# Altium schematic symbol library RF_GSM.SchLib: 12 symbols
Pins are listed as number, name and electrical type; pins without a type are passive.

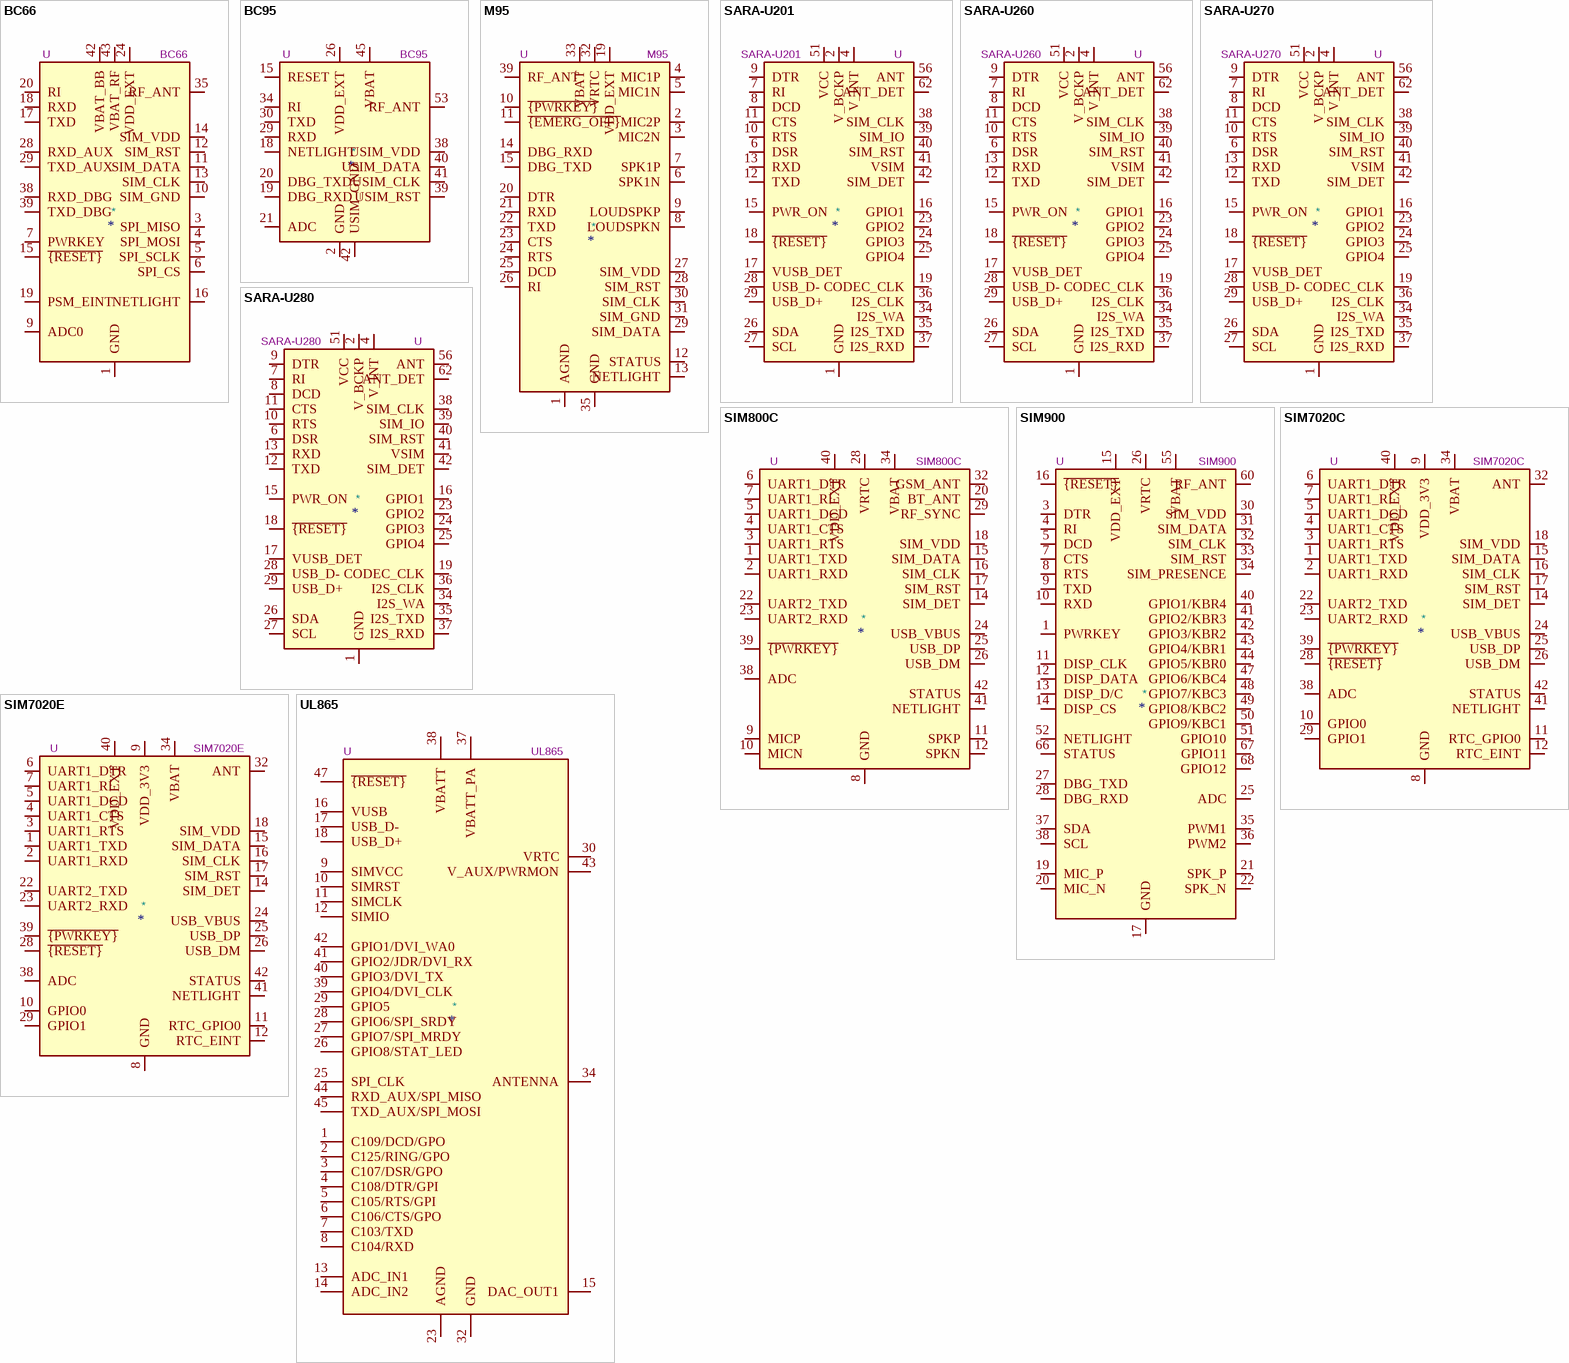
[diagram p0: symbols BC66 to UL865]

## BC66
designator *  value BC66  Reference: U
ki_keywords: NB-IoT Data SMS; ki_description: Quectel NB-IoT Global, AT Command Set; ki_fp_filters: Quectel*BC66*; Footprint: RF_GSM:Quectel_BC66; Datasheet: https://www.quectel.com/UploadImage/Downlad/Quectel_BC66_Hardware_Design_V1.1.pdf
pins: 1 GND, 2 RESERVED hidden, 3 SPI_MISO, 4 SPI_MOSI, 5 SPI_SCLK, 6 SPI_CS, 7 PWRKEY, 8 RESERVED hidden, 9 ADC0, 10 SIM_GND, 11 SIM_DATA, 12 SIM_RST, 13 SIM_CLK, 14 SIM_VDD, 15 ~{{RESET}}, 16 NETLIGHT, 17 TXD, 18 RXD, 19 PSM_EINT, 20 RI, 21 RESERVED hidden, 22 RESERVED hidden, 23 RESERVED hidden, 24 VDD_EXT, 25 RESERVED hidden, 26 RESERVED hidden, 27 GND hidden, 28 RXD_AUX, 29 TXD_AUX, 30 RESERVED hidden, 31 RESERVED hidden, 32 RESERVED hidden, 33 RESERVED hidden, 34 GND hidden, 35 RF_ANT, 36 GND hidden, 37 GND hidden, 38 RXD_DBG, 39 TXD_DBG, 40 GND hidden, 41 GND hidden, 42 VBAT_BB, 43 VBAT_RF, 44 RESERVED hidden, 45 RESERVED hidden, 46 RESERVED hidden, 47 RESERVED hidden, 48 RESERVED hidden, 49 RESERVED hidden, 50 RESERVED hidden, 51 RESERVED hidden, 52 RESERVED hidden, 53 RESERVED hidden, 54 RESERVED hidden, 55 RESERVED hidden, 56 RESERVED hidden, 57 RESERVED hidden, 58 RESERVED hidden

## BC95
designator *  value BC95  Reference: U
ki_keywords: NB-IoT GSM GPRS Quad-Band SMS; ki_description: NB-IoT, GSM Quad-Band Communication Module, GPRS, Audio Engine, AT Command Set; ki_fp_filters: Quectel?BC95*; Footprint: RF_GSM:Quectel_BC95; Datasheet: https://www.quectel.com/UploadImage/Downlad/Quectel_BC95_Hardware_Design_V1.3.pdf
pins: 2 GND, 15 RESET, 18 NETLIGHT, 19 DBG_RXD, 20 DBG_TXD, 21 ADC, 26 VDD_EXT, 29 RXD, 30 TXD, 34 RI, 38 USIM_VDD, 39 USIM_RST, 40 USIM_DATA, 41 USIM_CLK, 42 USIM_GND, 43 GND hidden, 45 VBAT, 46 VBAT hidden, 47 GND hidden, 48 GND hidden, 51 GND hidden, 52 GND hidden, 53 RF_ANT, 54 GND hidden, 59 GND hidden, 60 GND hidden, 61 GND hidden, 62 GND hidden, 63 GND hidden, 64 GND hidden, 65 GND hidden, 66 GND hidden, 71 GND hidden, 72 GND hidden, 73 GND hidden, 74 GND hidden, 81 GND hidden, 82 GND hidden, 83 GND hidden, 92 GND hidden, 93 GND hidden, 94 GND hidden

## M95
designator *  value M95  Reference: U
ki_keywords: GSM GPRS AT SMS voice TCP/IP; ki_description: Quectel quad-band GSM/GPRS module in LCC package; ki_fp_filters: Quectel*M95*; Footprint: RF_GSM:Quectel_M95; Datasheet: https://www.quectel.com/UploadImage/Downlad/M95_Hardware_Design_V1.3.pdf
pins: 1 AGND, 2 MIC2P, 3 MIC2N, 4 MIC1P, 5 MIC1N, 6 SPK1N, 7 SPK1P, 8 LOUDSPKN, 9 LOUDSPKP, 10 ~{{PWRKEY}}, 11 ~{{EMERG_OFF}}, 12 STATUS, 13 NETLIGHT, 14 DBG_RXD, 15 DBG_TXD, 16 RESERVED hidden, 17 RESERVED hidden, 18 RESERVED hidden, 19 VDD_EXT, 20 DTR, 21 RXD, 22 TXD, 23 CTS, 24 RTS, 25 DCD, 26 RI, 27 SIM_VDD, 28 SIM_RST, 29 SIM_DATA, 30 SIM_CLK, 31 SIM_GND, 32 VRTC, 33 VBAT, 34 VBAT hidden, 35 GND, 36 GND hidden, 37 GND hidden, 38 GND hidden, 39 RF_ANT, 40 GND hidden, 41 RESERVED hidden, 42 RESERVED hidden

## SARA-U201
designator *  value SARA-U201  Reference: U
ki_keywords: GSM HSPA 2G 3G; ki_description: Ublox HSPA GSM Quad-Band Communication Module, AT Command Set, AT Command Set, Worldwide , LGA-96; ki_fp_filters: ublox*SARA*; Footprint: RF_GSM:ublox_SARA-G3_LGA-96; Datasheet: https://www.u-blox.com/sites/default/files/SARA-U2_DataSheet_(UBX-13005287).pdf
pins: 1 GND, 2 V_BCKP, 3 GND hidden, 4 V_INT, 5 GND hidden, 6 DSR, 7 RI, 8 DCD, 9 DTR, 10 RTS, 11 CTS, 12 TXD, 13 RXD, 14 GND hidden, 15 PWR_ON, 16 GPIO1, 17 VUSB_DET, 18 ~{{RESET}}, 19 CODEC_CLK, 20 GND hidden, 21 GND hidden, 22 GND hidden, 23 GPIO2, 24 GPIO3, 25 GPIO4, 26 SDA, 27 SCL, 28 USB_D-, 29 USB_D+, 30 GND hidden, 31 RSVD hidden, 32 GND hidden, 33 RSVD hidden, 34 I2S_WA, 35 I2S_TXD, 36 I2S_CLK, 37 I2S_RXD, 38 SIM_CLK, 39 SIM_IO, 40 SIM_RST, 41 VSIM, 42 SIM_DET, 43 GND hidden, 44 RSVD hidden, 45 RSVD hidden, 46 RSVD hidden, 47 RSVD hidden, 48 RSVD hidden, 49 RSVD hidden, 50 GND hidden, 51 VCC, 52 VCC hidden, 53 VCC hidden, 54 GND hidden, 55 GND hidden, 56 ANT, 57 GND hidden, 58 GND hidden, 59 GND hidden, 60 GND hidden, 61 GND hidden, 62 ANT_DET, 63 GND hidden, 64 GND hidden, 65 GND hidden, 66 GND hidden, 67 GND hidden, 68 GND hidden, 69 GND hidden, 70 GND hidden, 71 GND hidden, 72 GND hidden, 73 GND hidden, 74 GND hidden, 75 GND hidden, 76 GND hidden, 77 GND hidden, 78 GND hidden, 79 GND hidden, 80 GND hidden, 81 GND hidden, 82 GND hidden, 83 GND hidden, 84 GND hidden, 85 GND hidden, 86 GND hidden, 87 GND hidden, 88 GND hidden, 89 GND hidden, 90 GND hidden, 91 GND hidden, 92 GND hidden, 93 GND hidden, 94 GND hidden, 95 GND hidden, 96 GND hidden

## SARA-U260
designator *  value SARA-U260  Reference: U
ki_keywords: GSM HSPA 2G 3G; ki_description: Ublox HSPA GSM Quad-Band Communication Module, AT Command Set, Designed for America, LGA-96; ki_fp_filters: ublox*SARA*; Footprint: RF_GSM:ublox_SARA-G3_LGA-96; Datasheet: https://www.u-blox.com/sites/default/files/SARA-U2_DataSheet_(UBX-13005287).pdf
pins: 1 GND, 2 V_BCKP, 3 GND hidden, 4 V_INT, 5 GND hidden, 6 DSR, 7 RI, 8 DCD, 9 DTR, 10 RTS, 11 CTS, 12 TXD, 13 RXD, 14 GND hidden, 15 PWR_ON, 16 GPIO1, 17 VUSB_DET, 18 ~{{RESET}}, 19 CODEC_CLK, 20 GND hidden, 21 GND hidden, 22 GND hidden, 23 GPIO2, 24 GPIO3, 25 GPIO4, 26 SDA, 27 SCL, 28 USB_D-, 29 USB_D+, 30 GND hidden, 31 RSVD hidden, 32 GND hidden, 33 RSVD hidden, 34 I2S_WA, 35 I2S_TXD, 36 I2S_CLK, 37 I2S_RXD, 38 SIM_CLK, 39 SIM_IO, 40 SIM_RST, 41 VSIM, 42 SIM_DET, 43 GND hidden, 44 RSVD hidden, 45 RSVD hidden, 46 RSVD hidden, 47 RSVD hidden, 48 RSVD hidden, 49 RSVD hidden, 50 GND hidden, 51 VCC, 52 VCC hidden, 53 VCC hidden, 54 GND hidden, 55 GND hidden, 56 ANT, 57 GND hidden, 58 GND hidden, 59 GND hidden, 60 GND hidden, 61 GND hidden, 62 ANT_DET, 63 GND hidden, 64 GND hidden, 65 GND hidden, 66 GND hidden, 67 GND hidden, 68 GND hidden, 69 GND hidden, 70 GND hidden, 71 GND hidden, 72 GND hidden, 73 GND hidden, 74 GND hidden, 75 GND hidden, 76 GND hidden, 77 GND hidden, 78 GND hidden, 79 GND hidden, 80 GND hidden, 81 GND hidden, 82 GND hidden, 83 GND hidden, 84 GND hidden, 85 GND hidden, 86 GND hidden, 87 GND hidden, 88 GND hidden, 89 GND hidden, 90 GND hidden, 91 GND hidden, 92 GND hidden, 93 GND hidden, 94 GND hidden, 95 GND hidden, 96 GND hidden

## SARA-U270
designator *  value SARA-U270  Reference: U
ki_keywords: GSM HSPA 2G 3G; ki_description: Ublox HSPA GSM Quad-Band Communication Module, AT Command Set, Designed for Europe, Asia and Others, LGA-96; ki_fp_filters: ublox*SARA*; Footprint: RF_GSM:ublox_SARA-G3_LGA-96; Datasheet: https://www.u-blox.com/sites/default/files/SARA-U2_DataSheet_(UBX-13005287).pdf
pins: 1 GND, 2 V_BCKP, 3 GND hidden, 4 V_INT, 5 GND hidden, 6 DSR, 7 RI, 8 DCD, 9 DTR, 10 RTS, 11 CTS, 12 TXD, 13 RXD, 14 GND hidden, 15 PWR_ON, 16 GPIO1, 17 VUSB_DET, 18 ~{{RESET}}, 19 CODEC_CLK, 20 GND hidden, 21 GND hidden, 22 GND hidden, 23 GPIO2, 24 GPIO3, 25 GPIO4, 26 SDA, 27 SCL, 28 USB_D-, 29 USB_D+, 30 GND hidden, 31 RSVD hidden, 32 GND hidden, 33 RSVD hidden, 34 I2S_WA, 35 I2S_TXD, 36 I2S_CLK, 37 I2S_RXD, 38 SIM_CLK, 39 SIM_IO, 40 SIM_RST, 41 VSIM, 42 SIM_DET, 43 GND hidden, 44 RSVD hidden, 45 RSVD hidden, 46 RSVD hidden, 47 RSVD hidden, 48 RSVD hidden, 49 RSVD hidden, 50 GND hidden, 51 VCC, 52 VCC hidden, 53 VCC hidden, 54 GND hidden, 55 GND hidden, 56 ANT, 57 GND hidden, 58 GND hidden, 59 GND hidden, 60 GND hidden, 61 GND hidden, 62 ANT_DET, 63 GND hidden, 64 GND hidden, 65 GND hidden, 66 GND hidden, 67 GND hidden, 68 GND hidden, 69 GND hidden, 70 GND hidden, 71 GND hidden, 72 GND hidden, 73 GND hidden, 74 GND hidden, 75 GND hidden, 76 GND hidden, 77 GND hidden, 78 GND hidden, 79 GND hidden, 80 GND hidden, 81 GND hidden, 82 GND hidden, 83 GND hidden, 84 GND hidden, 85 GND hidden, 86 GND hidden, 87 GND hidden, 88 GND hidden, 89 GND hidden, 90 GND hidden, 91 GND hidden, 92 GND hidden, 93 GND hidden, 94 GND hidden, 95 GND hidden, 96 GND hidden

## SARA-U280
designator *  value SARA-U280  Reference: U
ki_keywords: GSM HSPA 2G 3G; ki_description: Ublox HSPA GSM Quad-Band Communication Module, AT Command Set, Designed for America, LGA-96; ki_fp_filters: ublox*SARA*; Footprint: RF_GSM:ublox_SARA-G3_LGA-96; Datasheet: https://www.u-blox.com/sites/default/files/SARA-U2_DataSheet_(UBX-13005287).pdf
pins: 1 GND, 2 V_BCKP, 3 GND hidden, 4 V_INT, 5 GND hidden, 6 DSR, 7 RI, 8 DCD, 9 DTR, 10 RTS, 11 CTS, 12 TXD, 13 RXD, 14 GND hidden, 15 PWR_ON, 16 GPIO1, 17 VUSB_DET, 18 ~{{RESET}}, 19 CODEC_CLK, 20 GND hidden, 21 GND hidden, 22 GND hidden, 23 GPIO2, 24 GPIO3, 25 GPIO4, 26 SDA, 27 SCL, 28 USB_D-, 29 USB_D+, 30 GND hidden, 31 RSVD hidden, 32 GND hidden, 33 RSVD hidden, 34 I2S_WA, 35 I2S_TXD, 36 I2S_CLK, 37 I2S_RXD, 38 SIM_CLK, 39 SIM_IO, 40 SIM_RST, 41 VSIM, 42 SIM_DET, 43 GND hidden, 44 RSVD hidden, 45 RSVD hidden, 46 RSVD hidden, 47 RSVD hidden, 48 RSVD hidden, 49 RSVD hidden, 50 GND hidden, 51 VCC, 52 VCC hidden, 53 VCC hidden, 54 GND hidden, 55 GND hidden, 56 ANT, 57 GND hidden, 58 GND hidden, 59 GND hidden, 60 GND hidden, 61 GND hidden, 62 ANT_DET, 63 GND hidden, 64 GND hidden, 65 GND hidden, 66 GND hidden, 67 GND hidden, 68 GND hidden, 69 GND hidden, 70 GND hidden, 71 GND hidden, 72 GND hidden, 73 GND hidden, 74 GND hidden, 75 GND hidden, 76 GND hidden, 77 GND hidden, 78 GND hidden, 79 GND hidden, 80 GND hidden, 81 GND hidden, 82 GND hidden, 83 GND hidden, 84 GND hidden, 85 GND hidden, 86 GND hidden, 87 GND hidden, 88 GND hidden, 89 GND hidden, 90 GND hidden, 91 GND hidden, 92 GND hidden, 93 GND hidden, 94 GND hidden, 95 GND hidden, 96 GND hidden

## SIM800C
designator *  value SIM800C  Reference: U
ki_keywords: GSM GPRS Quad-Band SMS; ki_description: GSM Quad-Band Communication Module, GPRS, Audio Engine, AT Command Set, Bluetooth is Optional; ki_fp_filters: SIMCom*SIM800C*; Footprint: RF_GSM:SIMCom_SIM800C; Datasheet: http://simcom.ee/documents/SIM800C/SIM800C_Hardware_Design_V1.05.pdf
pins: 1 UART1_TXD, 2 UART1_RXD, 3 UART1_RTS, 4 UART1_CTS, 5 UART1_DCD, 6 UART1_DTR, 7 UART1_RI, 8 GND, 9 MICP, 10 MICN, 11 SPKP, 12 SPKN, 13 GND hidden, 14 SIM_DET, 15 SIM_DATA, 16 SIM_CLK, 17 SIM_RST, 18 SIM_VDD, 19 GND hidden, 20 BT_ANT, 21 GND hidden, 22 UART2_TXD, 23 UART2_RXD, 24 USB_VBUS, 25 USB_DP, 26 USB_DM, 27 GND hidden, 28 VRTC, 29 RF_SYNC, 30 GND hidden, 31 GND hidden, 32 GSM_ANT, 33 GND hidden, 34 VBAT, 35 VBAT hidden, 36 GND hidden, 37 GND hidden, 38 ADC, 39 ~{{PWRKEY}}, 40 VDD_EXT, 41 NETLIGHT, 42 STATUS

## SIM900
designator *  value SIM900  Reference: U
ki_keywords: GSM GPRS Quad-Band SMS FAX; ki_description: GSM Quad-Band Communication Module, GPRS, Audio Engine, AT Command Set; ki_fp_filters: SIMCom*SIM900*; Footprint: RF_GSM:SIMCom_SIM900; Datasheet: http://simcom.ee/documents/SIM900/SIM900_Hardware%20Design_V2.05.pdf
pins: 1 PWRKEY, 2 NC hidden, 3 DTR, 4 RI, 5 DCD, 6 NC hidden, 7 CTS, 8 RTS, 9 TXD, 10 RXD, 11 DISP_CLK, 12 DISP_DATA, 13 DISP_D/C, 14 DISP_CS, 15 VDD_EXT, 16 ~{{RESET}}, 17 GND, 18 GND hidden, 19 MIC_P, 20 MIC_N, 21 SPK_P, 22 SPK_N, 23 NC hidden, 24 NC hidden, 25 ADC, 26 VRTC, 27 DBG_TXD, 28 DBG_RXD, 29 GND hidden, 30 SIM_VDD, 31 SIM_DATA, 32 SIM_CLK, 33 SIM_RST, 34 SIM_PRESENCE, 35 PWM1, 36 PWM2, 37 SDA, 38 SCL, 39 GND hidden, 40 GPIO1/KBR4, 41 GPIO2/KBR3, 42 GPIO3/KBR2, 43 GPIO4/KBR1, 44 GPIO5/KBR0, 45 GND hidden, 46 GND hidden, 47 GPIO6/KBC4, 48 GPIO7/KBC3, 49 GPIO8/KBC2, 50 GPIO9/KBC1, 51 GPIO10, 52 NETLIGHT, 53 GND hidden, 54 GND hidden, 55 VBAT, 56 VBAT hidden, 57 VBAT hidden, 58 GND hidden, 59 GND hidden, 60 RF_ANT, 61 GND hidden, 62 GND hidden, 63 GND hidden, 64 GND hidden, 65 GND hidden, 66 STATUS, 67 GPIO11, 68 GPIO12

## SIM7020C
designator *  value SIM7020C  Reference: U
ki_keywords: NB-IoT Data SMS; ki_description: NB-IoT B1/B3/B5/B8, AT Command Set; ki_fp_filters: SIMCom*SIM800C*; Footprint: RF_GSM:SIMCom_SIM800C; Datasheet: https://simcom.ee/documents/SIM7020/SIM7020%20Hardware%20Design_V1.02.pdf
pins: 1 UART1_TXD, 2 UART1_RXD, 3 UART1_RTS, 4 UART1_CTS, 5 UART1_DCD, 6 UART1_DTR, 7 UART1_RI, 8 GND, 9 VDD_3V3, 10 GPIO0, 11 RTC_GPIO0, 12 RTC_EINT, 13 GND hidden, 14 SIM_DET, 15 SIM_DATA, 16 SIM_CLK, 17 SIM_RST, 18 SIM_VDD, 19 GND hidden, 20 NC hidden, 21 GND hidden, 22 UART2_TXD, 23 UART2_RXD, 24 USB_VBUS, 25 USB_DP, 26 USB_DM, 27 GND hidden, 28 ~{{RESET}}, 29 GPIO1, 30 GND hidden, 31 GND hidden, 32 ANT, 33 GND hidden, 34 VBAT, 35 VBAT hidden, 36 GND hidden, 37 GND hidden, 38 ADC, 39 ~{{PWRKEY}}, 40 VDD_EXT, 41 NETLIGHT, 42 STATUS

## SIM7020E
designator *  value SIM7020E  Reference: U
ki_keywords: NB-IoT Data SMS; ki_description: NB-IoT B1/B3/B5/B8/B20/B28, AT Command Set; ki_fp_filters: SIMCom*SIM800C*; Footprint: RF_GSM:SIMCom_SIM800C; Datasheet: https://simcom.ee/documents/SIM7020/SIM7020%20Hardware%20Design_V1.02.pdf
pins: 1 UART1_TXD, 2 UART1_RXD, 3 UART1_RTS, 4 UART1_CTS, 5 UART1_DCD, 6 UART1_DTR, 7 UART1_RI, 8 GND, 9 VDD_3V3, 10 GPIO0, 11 RTC_GPIO0, 12 RTC_EINT, 13 GND hidden, 14 SIM_DET, 15 SIM_DATA, 16 SIM_CLK, 17 SIM_RST, 18 SIM_VDD, 19 GND hidden, 20 NC hidden, 21 GND hidden, 22 UART2_TXD, 23 UART2_RXD, 24 USB_VBUS, 25 USB_DP, 26 USB_DM, 27 GND hidden, 28 ~{{RESET}}, 29 GPIO1, 30 GND hidden, 31 GND hidden, 32 ANT, 33 GND hidden, 34 VBAT, 35 VBAT hidden, 36 GND hidden, 37 GND hidden, 38 ADC, 39 ~{{PWRKEY}}, 40 VDD_EXT, 41 NETLIGHT, 42 STATUS

## UL865
designator *  value UL865  Reference: U
ki_keywords: gsm 3g gprs umts hspa; ki_description: Telit 3G Module (GSM/GPRS/UMTS/HSPA), 3.8V, Digital voice and SMS, I2S, USB 2.0, UART, SPI. Manufacturer package; ki_fp_filters: *Telit*xL865*; Footprint: RF_GSM:Telit_xL865; Datasheet: http://www.telit.com/fileadmin/user_upload/products/Downloads/3G/Telit_UL865_Hardware_User_Guide_r8.pdf
pins: 1 C109/DCD/GPO, 2 C125/RING/GPO, 3 C107/DSR/GPO, 4 C108/DTR/GPI, 5 C105/RTS/GPI, 6 C106/CTS/GPO, 7 C103/TXD, 8 C104/RXD, 9 SIMVCC, 10 SIMRST, 11 SIMCLK, 12 SIMIO, 13 ADC_IN1, 14 ADC_IN2, 15 DAC_OUT1, 16 VUSB, 17 USB_D-, 18 USB_D+, 19 NC hidden, 20 NC hidden, 21 NC hidden, 22 NC hidden, 23 AGND, 24 NC hidden, 25 SPI_CLK, 26 GPIO8/STAT_LED, 27 GPIO7/SPI_MRDY, 28 GPIO6/SPI_SRDY, 29 GPIO5, 30 VRTC, 31 NC hidden, 32 GND, 33 GND hidden, 34 ANTENNA, 35 GND hidden, 36 GND hidden, 37 VBATT_PA, 38 VBATT, 39 GPIO4/DVI_CLK, 40 GPIO3/DVI_TX, 41 GPIO2/JDR/DVI_RX, 42 GPIO1/DVI_WA0, 43 V_AUX/PWRMON, 44 RXD_AUX/SPI_MISO, 45 TXD_AUX/SPI_MOSI, 46 GND hidden, 47 ~{{RESET}}, 48 NC hidden